# Altium footprint library PcbLib1.PcbLib: 1 footprints
Each footprint in its own frame and in the unit in brackets; x right, y up, seen from the top. Pads: shape width x height; smd on the part's side, far side on the other; paste and mask are expansions set on the pad; w line width, h text height; cw(c..) or ccw(c..) is an arc to the next point about the centre after c.
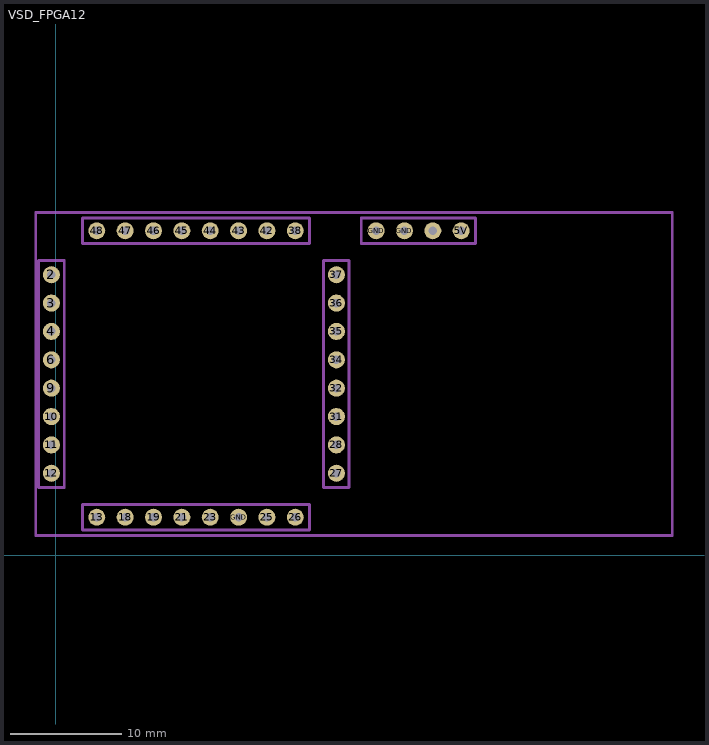
[diagram p0: the footprint, top view; thin cyan lines are the x and y axes]

## VSD_FPGA12 [mil] "VSD FPGA"
pads (36):
  round 60 hole 30: 2(-15,990) 3(-15,890) 3.3V(1330,1145) 4(-15,790) 5V(1430,1145) 6(-15,690) 9(-15,590) 10(-15,490) 11(-15,390) 12(-15,290) 13(145,135) 18(245,135) 19(345,135) 21(445,135) 23(545,135) 25(745,135) 26(845,135) 27(990,290) 28(990,390) 31(990,490) 32(990,590) 34(990,690) 35(990,790) 36(990,890) 37(990,990) 38(845,1145) 42(745,1145) 43(645,1145) 44(545,1145) 45(445,1145) 46(345,1145) 47(245,1145) 48(145,1145) GND(645,135) GND(1130,1145) GND(1230,1145)
Mechanical 1:
  lines w10: -70,70 2174.09,70 2174.09,1210 -70,1210 -70,70 ; -60,240 -60,1040 30,1040 30,240 -60,240 ; 95,90 95,180 895,180 895,90 95,90 ; 95,1100 95,1190 895,1190 895,1100 95,1100 ; 945,240 1035,240 1035,1040 945,1040 945,240 ; 1077.5,1100 1077.5,1190 1480,1190 1480,1100 1077.5,1100
3D body: height 20, standoff 0, extent 100,80 900,170
3D body: height 20, standoff 0, extent 1077.5,1110 1480,1200
3D body: height 20, standoff 0, extent -60,240 30,1040
3D body: height 20, standoff 0, extent -70,70 2174.09,1210
3D body: height 20, standoff 0, extent 100,1110 900,1200
3D body: height 20, standoff 0, extent 955,240 1045,1040